# EAGLE library part B3W-9000-RG2N (library keves)
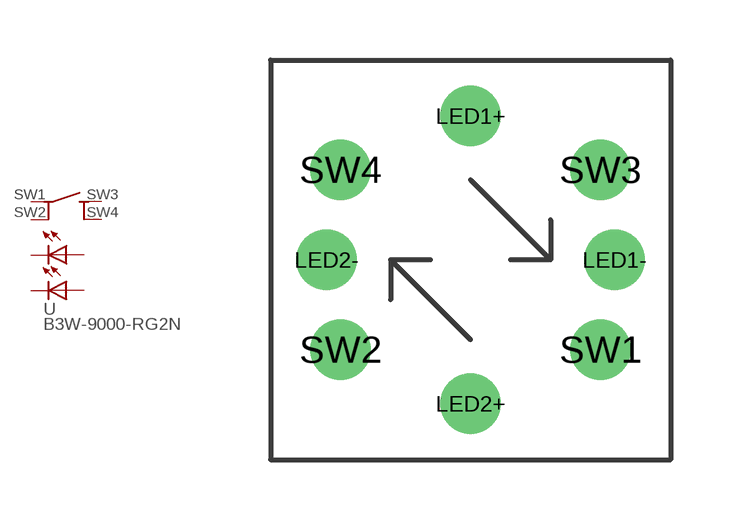
[diagram p24: symbol with the pads of B3W-9000-X2X; footprint B3W-9000-X2X]

Designator prefix -

## B3W-9000-RG2N  [B3W-9000-X2X]
LED1+  LED1+  pas
LED1-  LED1-  pas
LED2+  LED2+  pas
LED2-  LED2-  pas
SW1  SW1_A  pas
SW2  SW1_B  pas
SW3  SW2_A  pas
SW4  SW2_B  pas

## Footprint B3W-9000-X2X (pad centres in mm)
drill 1: LED1+ 0,3.6; LED1- 3.6,0; LED2+ 0,-3.6; LED2- -3.6,0; SW1 3.25,-2.25; SW2 -3.25,-2.25; SW3 3.25,2.25; SW4 -3.25,2.25